# Altium footprint library SnapEDApcb.PcbLib: 1 footprints
Each footprint in its own frame and in the unit in brackets; x right, y up, seen from the top. Pads: shape width x height; smd on the part's side, far side on the other; paste and mask are expansions set on the pad; w line width, h text height; cw(c..) or ccw(c..) is an arc to the next point about the centre after c.
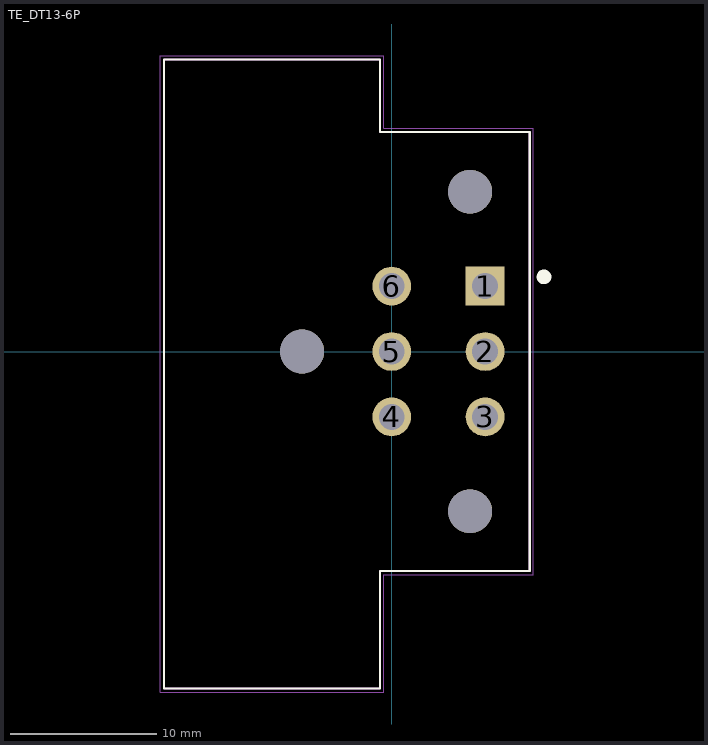
[diagram p0: the footprint, top view; thin cyan lines are the x and y axes]

## TE_DT13-6P [mm]
pads (9):
  rect 2.64x2.64 hole 1.76: 1(6.35,4.45)
  round 2.64 hole 1.76: 2(6.35,0) 3(6.35,-4.45) 4(0,-4.45) 5(0,0) 6(0,4.45)
  round 2.99 hole 2.99 unplated: ""(-6.1,0) ""(5.33,-10.87) ""(5.33,10.87)
Top Overlay:
  circle w0.5: c10.36,5.08 r0.25
  lines w0.152: -15.5,-22.93 -15.5,19.87 -0.8,19.87 -0.8,14.935 9.39,14.935 9.39,-14.935 -0.8,-14.935 -0.8,-22.93 -15.5,-22.93
Mechanical 13:
  lines w0.152: -15.5,-22.93 -15.5,19.87 -0.8,19.87 -0.8,14.935 9.39,14.935 9.39,-14.935 -0.8,-14.935 -0.8,-22.93 -15.5,-22.93
Mechanical 15:
  lines w0.05: -15.75,-23.18 -0.55,-23.18 -0.55,-15.185 9.64,-15.185 9.64,15.185 -0.55,15.185 -0.55,20.12 -15.75,20.12 -15.75,-23.18